# Altium schematic symbol library ArduinoNano.SchLib: 1 symbol
Pins are listed as number, name and electrical type; pins without a type are passive.

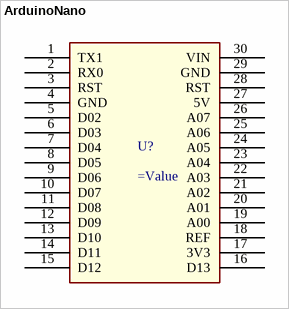
[diagram p0: symbol ArduinoNano]

## ArduinoNano
designator U?
pins: 1 TX1, 2 RX0, 3 RST, 4 GND, 5 D02, 6 D03, 7 D04, 8 D05, 9 D06, 10 D07, 11 D08, 12 D09, 13 D10, 14 D11, 15 D12, 16 D13, 17 3V3, 18 REF, 19 A00, 20 A01, 21 A02, 22 A03, 23 A04, 24 A05, 25 A06, 26 A07, 27 5V, 28 RST, 29 GND, 30 VIN